# EAGLE library part SCA3000 (library vti)
SCA300 3-axis-ACC von VTI technologies www.vti.fi
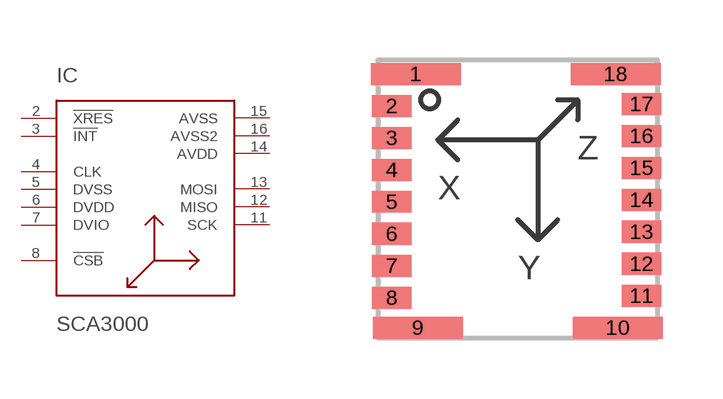
[diagram p0: symbol with the pads of SCA3000; footprint SCA3000]

Designator prefix IC

## SCA3000  [SCA3000]
2  !XRES  in
3  !INT  out
4  CLK  in
5  DVSS  in
6  DVDD  in
7  DVIO  in
8  !CSB  in
11  SCK  in
12  MISO  out
13  MOSI  in
14  AVDD  in
15  AVSS  in
16  AVSS2  in

## Footprint SCA3000 (pad centres in mm)
SCA300 3-axis-accelerometer
smd 2.25 x 0.55: 1 0.95,-0.35; 9 1,-6.7; 10 6,-6.7; 18 5.95,-0.35
smd 0.976 x 0.55: 2 0.35,-1.15; 3 0.35,-1.95; 4 0.35,-2.75; 5 0.35,-3.55; 6 0.35,-4.35; 7 0.35,-5.15; 8 0.35,-5.95; 11 6.6,-5.9; 12 6.6,-5.1; 13 6.6,-4.3; 14 6.6,-3.5; 15 6.6,-2.7; 16 6.6,-1.9; 17 6.6,-1.1